# EAGLE library part NRF24AP2-8CH (library nordicsemi.com)
Nordic Semiconductor Wireless Solutions Based on specifications from: http://www.nordicsemi.com/eng/Products/ANT/nRF24AP2-8CH Eagle library created by: Bruce James <custard@cpan.org>
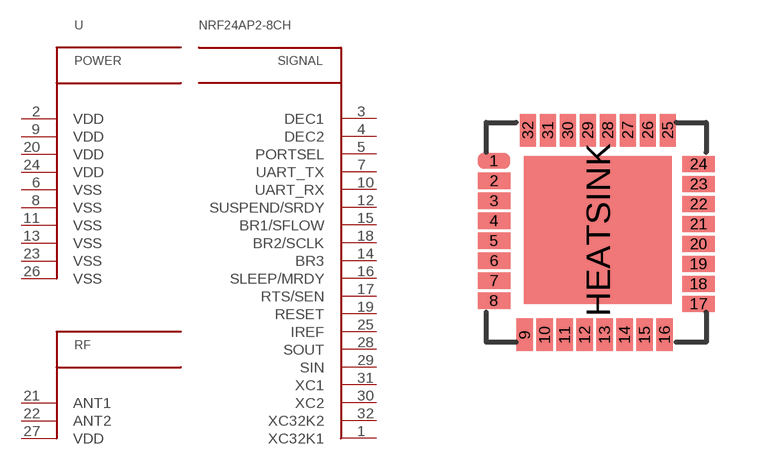
[diagram p0: symbol with the pads of QFN32; footprint QFN32]

Designator prefix -

## NRF24AP2-8CH  [QFN32]
1  XC32K1
2  VDD  pwr
3  DEC1
4  DEC2
5  PORTSEL
6  VSS  pwr
7  UART_TX
8  VSS  pwr
9  VDD  pwr
10  UART_RX
11  VSS  pwr
12  SUSPEND/SRDY
13  VSS  pwr
14  BR3
15  BR1/SFLOW
16  SLEEP/MRDY
17  RTS/SEN
18  BR2/SCLK
19  RESET
20  VDD  pwr
21  ANT1
22  ANT2
23  VSS  pwr
24  VDD  pwr
25  IREF
26  VSS  pwr
27  VDD
28  SOUT
29  SIN
30  XC2
31  XC1
32  XC32K2

## Footprint QFN32 (pad centres in mm)
QFN32 5x5 Package
smd 0.813 x 0.406: 1 -2.56,1.79; 2 -2.56,1.29; 3 -2.56,0.79; 4 -2.56,0.29; 5 -2.56,-0.21; 6 -2.56,-0.71; 7 -2.56,-1.21; 8 -2.56,-1.71; 17 2.56,-1.79; 18 2.56,-1.29; 19 2.56,-0.79; 20 2.56,-0.29; 21 2.56,0.21; 22 2.56,0.71; 23 2.56,1.21; 24 2.56,1.71
smd 0.406 x 0.813: 9 -1.79,-2.56; 10 -1.29,-2.56; 11 -0.79,-2.56; 12 -0.29,-2.56; 13 0.21,-2.56; 14 0.71,-2.56; 15 1.21,-2.56; 16 1.71,-2.56; 25 1.79,2.56; 26 1.29,2.56; 27 0.79,2.56; 28 0.29,2.56; 29 -0.21,2.56; 30 -0.71,2.56; 31 -1.21,2.56; 32 -1.71,2.56
smd 3.7 x 3.7: HEATSINK 0.04,0.06